# Altium integrated library PCB_Project.IntLib: 51 symbols
Pins are listed as number, name and electrical type; pins without a type are passive.

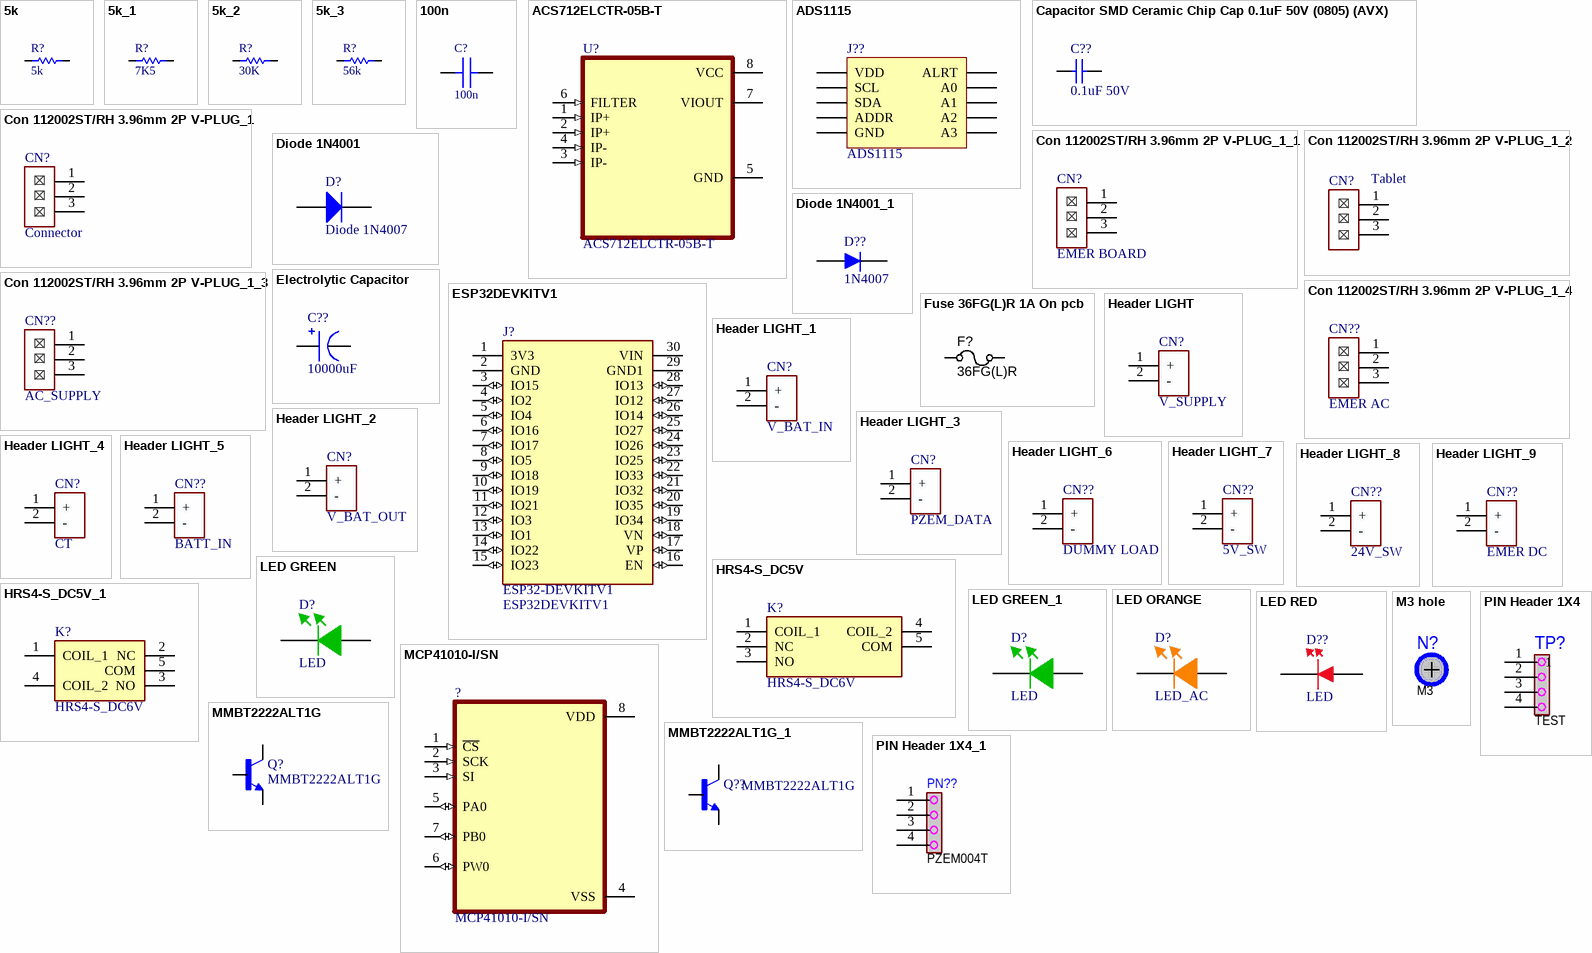
[diagram p0: symbols 5k to PIN Header 1X4_1]

## 5k
designator R?
footprint 0805 MODIFICADO (Chip Resistor, Empaque 0805)
pins: 1, 2

## 5k_1
designator R?, comment 7K5
footprint 0805 MODIFICADO (Chip Resistor, Empaque 0805)
pins: 1, 2

## 5k_2
designator R?, comment 30K
footprint 0805 MODIFICADO (Chip Resistor, Empaque 0805)
pins: 1, 2

## 5k_3
designator R?, comment 56k
footprint RESC2012X60N
pins: 1, 2

## 100n
designator C?
footprint CAPC2012X135N (Chip Capacitor, Body 2.0x1.2mm, EIA 0805, IPC Medium Density)
pins: 1, 2

## ACS712ELCTR-05B-T
designator U?
Current Sensor 5A 1 Channel Hall Effect, Open Loop Bidirectional 8-SOIC (0.154, 3.90mm Width); MF: Allegro MicroSystems LLC; SnapEDA_Link: https://www.snapeda.com/parts/ACS712ELCTR-05B-T/Allegro+MicroSystems+LLC/view-part/?ref=snap; Package: SOIC-8 Allegro MicroSystems LLC; MP: ACS712ELCTR-05B-T; Check_prices: https://www.snapeda.com/parts/ACS712ELCTR-05B-T/Allegro+MicroSystems+LLC/view-part/?ref=eda; Purchase-URL: https://pricing.snapeda.com/search/part/ACS712ELCTR-05B-T/?ref=eda; Price: None; Value: *; Availability: In Stock
footprint SOIC127P600X175-8N
pins: 1 IP+ (in), 2 IP+ (in), 3 IP- (in), 4 IP- (in), 5 GND (power), 6 FILTER (in), 7 VIOUT, 8 VCC (power)

## ADS1115
designator J??
ADC Sensor; LatestRevisionDate: 17-Jul-2002; LatestRevisionNote: Re-released for DXP Platform.; Publisher: Altium Limited
signal-integrity model Connector
footprint BNO080 (Header 1x10)
pins: 1 VDD, 2 GND, 3 SCL, 4 SDA, 5 ADDR, 6 ALRT, 7 A0, 8 A1, 9 A2, 10 A3

## Capacitor SMD Ceramic Chip Cap 0.1uF 50V (0805) (AVX)
designator C??, comment 0.1uF 50V
Capacitor SMD Ceramic Chip Cap 0.1uF 50V (0805) (AVX); RMPN: RMELCCAPSC001; Value: 0.1uF, 50V Ceramic; Created by: Zion Blue; Published: 28 April 2014; Publisher: Cynetik Group; RM DESC: Capacitor SMD Ceramic Chip Cap 0.1uF 50V (0805) (AVX); MPN: *; Manufacturer: *
footprint CAPC2012X135N (Chip Capacitor, Body 2.0x1.2mm, EIA 0805, IPC Medium Density)
pins: 1, 2

## Con 112002ST/RH 3.96mm 2P V-PLUG_1
designator CN?, comment Connector
Connector 3.9mm. 3PINS WAFER STRAIGHT PIN (MALE); RMPN: RMELCCNT006; MPN: 112002ST/RH; Manufacturer: GTK; RM DESC: Connector 3.9mm. 2PINS WAFER STRAIGHT PIN (MALE); ESPN: 0007-0932-2; M DESC: WAFER Connector 2 Pins,Pitch 3.96mm, Straight Type; ComponentLink1Description: ES LINK; ComponentLink1URL: https://www.es.co.th/detail.asp?Prod=000709322
footprint CON 3P 3.8mm
pins: 1 (power), 2 (power), 3 (power)

## Con 112002ST/RH 3.96mm 2P V-PLUG_1_1
designator CN?, comment EMER BOARD
Connector 3.9mm. 3PINS WAFER STRAIGHT PIN (MALE); RMPN: RMELCCNT006; MPN: 112002ST/RH; Manufacturer: GTK; RM DESC: Connector 3.9mm. 2PINS WAFER STRAIGHT PIN (MALE); ESPN: 0007-0932-2; M DESC: WAFER Connector 2 Pins,Pitch 3.96mm, Straight Type; ComponentLink1Description: ES LINK; ComponentLink1URL: https://www.es.co.th/detail.asp?Prod=000709322
footprint CON 3P 3.8mm
pins: 1 (power), 2 (power), 3 (power)

## Con 112002ST/RH 3.96mm 2P V-PLUG_1_2
designator CN?, comment Tablet
Connector 3.9mm. 3PINS WAFER STRAIGHT PIN (MALE); RMPN: RMELCCNT006; MPN: 112002ST/RH; Manufacturer: GTK; RM DESC: Connector 3.9mm. 2PINS WAFER STRAIGHT PIN (MALE); ESPN: 0007-0932-2; M DESC: WAFER Connector 2 Pins,Pitch 3.96mm, Straight Type; ComponentLink1Description: ES LINK; ComponentLink1URL: https://www.es.co.th/detail.asp?Prod=000709322
footprint CON 3P 3.8mm
pins: 1 (power), 2 (power), 3 (power)

## Con 112002ST/RH 3.96mm 2P V-PLUG_1_3
designator CN??, comment AC_SUPPLY
Connector 3.9mm. 3PINS WAFER STRAIGHT PIN (MALE); RMPN: RMELCCNT006; MPN: 112002ST/RH; Manufacturer: GTK; RM DESC: Connector 3.9mm. 2PINS WAFER STRAIGHT PIN (MALE); ESPN: 0007-0932-2; M DESC: WAFER Connector 2 Pins,Pitch 3.96mm, Straight Type; ComponentLink1Description: ES LINK; ComponentLink1URL: https://www.es.co.th/detail.asp?Prod=000709322
footprint CON 3P 3.8mm
pins: 1, 2, 3

## Con 112002ST/RH 3.96mm 2P V-PLUG_1_4
designator CN??, comment EMER AC
Connector 3.9mm. 3PINS WAFER STRAIGHT PIN (MALE); RMPN: RMELCCNT006; MPN: 112002ST/RH; Manufacturer: GTK; RM DESC: Connector 3.9mm. 2PINS WAFER STRAIGHT PIN (MALE); ESPN: 0007-0932-2; M DESC: WAFER Connector 2 Pins,Pitch 3.96mm, Straight Type; ComponentLink1Description: ES LINK; ComponentLink1URL: https://www.es.co.th/detail.asp?Prod=000709322
footprint CON 3P 3.8mm
pins: 1, 2, 3

## Diode 1N4001
designator D?, comment Diode 1N4007
1 Amp General Purpose Rectifier; Published: 8-Jun-2000; LatestRevisionDate: 17-Jul-2002; LatestRevisionNote: Re-released for DXP Platform.; DatasheetVersion: 1998; PackageVersion: Aug-1999; PackageReference: DO-41; Publisher: Altium Limited; PackageDescription: Diode, Axial; Body 5.2 x 2.7 mm (LxDia. max), Lead Dia. 0.86 mm (max); Code_JEDEC: DO-204-AL; ComponentLink1Description: Manufacturer Link; ComponentLink1URL: http://www.fairchildsemi.com/; ComponentLink2Description: Datasheet; ComponentLink2URL: http://www.fairchildsemi.com/ds/1N%2F1N4001.pdf
footprint DO-41 (Diode, Axial; Body 5.2 x 2.7 mm (LxDia. max), Lead Dia. 0.86 mm (max))
simulation model 1N4001 (DIODE)
signal-integrity model 1N4001
pins: 1 A, 2 K

## Diode 1N4001_1
designator D??, comment 1N4007
1 Amp General Purpose Rectifier; Published: 8-Jun-2000; LatestRevisionDate: 17-Jul-2002; LatestRevisionNote: Re-released for DXP Platform.; DatasheetVersion: 1998; PackageVersion: Aug-1999; PackageReference: DO-41; Publisher: Altium Limited; PackageDescription: Diode, Axial; Body 5.2 x 2.7 mm (LxDia. max), Lead Dia. 0.86 mm (max); Code_JEDEC: DO-204-AL; ComponentLink1Description: Manufacturer Link; ComponentLink1URL: http://www.fairchildsemi.com/; ComponentLink2Description: Datasheet; ComponentLink2URL: http://www.fairchildsemi.com/ds/1N%2F1N4001.pdf
footprint DO-41 (Diode, Axial; Body 5.2 x 2.7 mm (LxDia. max), Lead Dia. 0.86 mm (max))
simulation model 1N4001 (DIODE)
signal-integrity model 1N4001
pins: 1 A, 2 K

## Electrolytic Capacitor
designator C??, comment 10000uF
10,000 uF / 1000 Vdc
pins: 0, 1

## ESP32DEVKITV1
designator J?
Dual core, Wi-Fi: 2.4 GHz up to 150 Mbits/s,BLE (Bluetooth Low Energy) and legacy Bluetooth, 32 bits, Up to 240 MHz; MF: Do it; Check_prices: https://www.snapeda.com/parts/ESP32%20DEVKIT%20V1/Do%20it/view-part/5659245/?ref=eda; Value: *; SnapEDA_Link: https://www.snapeda.com/parts/ESP32%20DEVKIT%20V1/Do%20it/view-part/5659245/?ref=snap; Package: Package; Availability: Unavailable; Price: None; MP: ESP32 DEVKIT V1
footprint ESP32-DEVKITV1_3D
pins: 1 3V3 (power), 2 GND (power), 3 IO15 (io), 4 IO2 (io), 5 IO4 (io), 6 IO16 (io), 7 IO17 (io), 8 IO5 (io), 9 IO18 (io), 10 IO19 (io), 11 IO21 (io), 12 IO3 (io), 13 IO1 (io), 14 IO22 (io), 15 IO23 (io), 16 EN (io), 17 VP (io), 18 VN (io), 19 IO34 (io), 20 IO35 (io), 21 IO32 (io), 22 IO33 (io), 23 IO25 (io), 24 IO26 (io), 25 IO27 (io), 26 IO14 (io), 27 IO12 (io), 28 IO13 (io), 29 GND1 (power), 30 VIN (power)
text: ESP32-DEVKITV1

## Fuse 36FG(L)R 1A On pcb
designator F?, comment 36FG(L)R
Fuse Microfuse, 1A/250Vac, Fast Acting (Normal Blow) P/N : 36FG(L)R (SLEEK); RMPN: RMELCFUSA001; Revised: Zion Blue; RM DESC: Fuse หางหนู Microfuse, 1A/250Vac, Fast Acting (Normal Blow) P/N : 36FG(L)R (SLEEK); ESPN: 0562-0001-0; Value: 1A, 250Vac; Published: 14-May-2014; Publisher: Cynetik Group; MPN: 36FG(L)R; Manufacturer: SLEEK; ComponentLink1Description: Link ES; ComponentLink1URL: https://www.es.co.th/detail.asp?prod=056200010; ComponentLink2Description: Datasheet; ComponentLink2URL: https://www.es.co.th/Schemetic/PDF/36FG-SLEEK.PDF
footprint Micro Fuse - L14mm
pins: 1, 2

## Header LIGHT
designator CN?, comment V_SUPPLY
Connector 3.96MM 02 PIN WAFER STRAIGHTPIN (MALE)
footprint Header 2 pin molex
pins: 1 + (power), 2 - (power)

## Header LIGHT_1
designator CN?, comment V_BAT_IN
Connector 3.96MM 02 PIN WAFER STRAIGHTPIN (MALE)
footprint Header 2 pin molex
pins: 1 +, 2 -

## Header LIGHT_2
designator CN?, comment V_BAT_OUT
Connector 3.96MM 02 PIN WAFER STRAIGHTPIN (MALE)
footprint Header 2 pin molex
pins: 1 + (power), 2 -

## Header LIGHT_3
designator CN?, comment PZEM_DATA
Connector 3.96MM 02 PIN WAFER STRAIGHTPIN (MALE)
footprint Header 2 pin molex
pins: 1 +, 2 -

## Header LIGHT_4
designator CN?, comment CT
Connector 3.96MM 02 PIN WAFER STRAIGHTPIN (MALE)
footprint Header 2 pin molex
pins: 1 +, 2 -

## Header LIGHT_5
designator CN??, comment BATT_IN
Connector 3.96MM 02 PIN WAFER STRAIGHTPIN (MALE)
footprint Header 2 pin molex
pins: 1 +, 2 -

## Header LIGHT_6
designator CN??, comment DUMMY LOAD
Connector 3.96MM 02 PIN DUMMY LOAD 10 OHM
footprint Header 2 pin molex
pins: 1 +, 2 -

## Header LIGHT_7
designator CN??, comment 5V_SW
Connector 3.96MM 02 PIN WAFER STRAIGHTPIN (MALE)
footprint Header 2 pin molex
pins: 1 +, 2 -

## Header LIGHT_8
designator CN??, comment 24V_SW
Connector 3.96MM 02 PIN WAFER STRAIGHTPIN (MALE)
footprint Header 2 pin molex
pins: 1 +, 2 -

## Header LIGHT_9
designator CN??, comment EMER DC
Connector 3.96MM 02 PIN WAFER STRAIGHTPIN (MALE)
footprint Header 2 pin molex
pins: 1 +, 2 -

## HRS4-S_DC5V
designator K?, comment HRS4-S_DC6V
Relay or Contactor; Manufacturer_Name: MULTICOMP; Manufacturer_Part_Number: HRS4-S DC5V; Datasheet Link: http://www.farnell.com/datasheets/1306711.pdf; Height: 16mm
footprint HRS4SDC5V
pins: 1 COIL_1, 2 NC, 3 NO, 4 COIL_2, 5 COM

## HRS4-S_DC5V_1
designator K?, comment HRS4-S_DC6V
Relay or Contactor; Manufacturer_Name: MULTICOMP; Manufacturer_Part_Number: HRS4-S DC5V; Datasheet Link: http://www.farnell.com/datasheets/1306711.pdf; Height: 16mm
footprint HRS4SDC5V
pins: 1 COIL_1, 2 NC, 3 NO, 4 COIL_2, 5 COM

## LED GREEN
designator D?, comment LED
LED Lamp Round 5 mm, 50 mcd,Green Color Green Diffused Lens
footprint LED GREEN
pins: 1 K, 2 A

## LED GREEN_1
designator D?, comment LED
LED Lamp Round 5 mm, 50 mcd,Green Color Green Diffused Lens
footprint LED GREEN
pins: 1 K, 2 A

## LED ORANGE
designator D?, comment LED_AC
LED ORANGE for AC-signal display
footprint LED ORANGE - duplicate
footprint 1206 Red LED SMD (Led SMD Blanco)
footprint LED GREEN - duplicate
footprint LED ORANGE
pins: 1 K, 2 A

## LED RED
designator D??, comment LED
LED Lamp 5mm Round,4.5 mcd,Red Color Red Diffused Lens
footprint LED RED
footprint 3.2X1.6X1.1 (SMT LED; 2 Flat Leads)
pins: 1 A, 2 K

## M3 hole
designator N?, comment M3
น็อต JT หัวร่ม สกรูมิลสี่แฉก M3x6; RMPN: RMRMANUTCJTZ011
footprint M3 hole

## MCP41010-I/SN
designator ?
Digital Potentiometer 10k Ohm 1 Circuit 256 Taps SPI Interface 8-SOIC; MF: Microchip; Availability: Unavailable; MP: MCP41010-I/SN; Package: SOIC-8 Microchip; SnapEDA_Link: https://www.snapeda.com/parts/MCP41010-I/SN/Microchip/view-part/43921/?ref=snap; Value: *; Price: None
footprint SOIC127P599X175-8N
pins: 1 ~{CS} (in), 2 SCK (in), 3 SI (in), 4 VSS (power), 5 PA0 (io), 6 PW0 (io), 7 PB0 (io), 8 VDD (power)

## MMBT2222ALT1G
designator Q?
Bipolar (BJT) Transistor NPN 40 V 600 mA 300MHz 225 mW Surface Mount SOT-23-3 (TO-236); MF: ON Semiconductor; SnapEDA_Link: https://www.snapeda.com/parts/MMBT2222ALT1G/Onsemi/view-part/?ref=snap; Purchase-URL: https://pricing.snapeda.com/search/part/MMBT2222ALT1G/?ref=eda; MP: MMBT2222ALT1G; Check_prices: https://www.snapeda.com/parts/MMBT2222ALT1G/Onsemi/view-part/?ref=eda; Availability: In Stock; Package: SOT-23-3 ON Semiconductor; Price: None; Value: *
footprint SOT95P237X111-3N
pins: 1 B, 2 E, 3 C

## MMBT2222ALT1G_1
designator Q??, comment MMBT2222ALT1G
Bipolar (BJT) Transistor NPN 40 V 600 mA 300MHz 225 mW Surface Mount SOT-23-3 (TO-236); MF: ON Semiconductor; SnapEDA_Link: https://www.snapeda.com/parts/MMBT2222ALT1G/Onsemi/view-part/?ref=snap; Purchase-URL: https://pricing.snapeda.com/search/part/MMBT2222ALT1G/?ref=eda; MP: MMBT2222ALT1G; Check_prices: https://www.snapeda.com/parts/MMBT2222ALT1G/Onsemi/view-part/?ref=eda; Availability: In Stock; Package: SOT-23-3 ON Semiconductor; Price: None; Value: *
footprint SOT95P237X111-3N
pins: 1 B, 2 E, 3 C

## PIN Header 1X4
designator TP?, comment TEST
Connector Pin Header 4 Pins,Pitch 2.54mm. P/N : PHSS04G10/RH (GTK); ComponentLink1Description: Link ES; ComponentLink1URL: https://www.es.co.th/detail.asp?Prod=000703471; ComponentLink2Description: Datasheet; ComponentLink2URL: https://www.es.co.th/Schemetic/PDF/PHSSXXG10.PDF
footprint 1x4POS_HEAD_MALE_GOLD (Connector Header, Single-row 4-position, 0.100" pitch)
footprint 1x4P Test PIN (Connector Header, Single-row 4-position, 0.100" pitch)
pins: 1 (power), 2, 3, 4 (power)

## PIN Header 1X4_1
designator PN??, comment PZEM004T
Connector Pin Header 4 Pins,Pitch 2.54mm. P/N : PHSS04G10/RH (GTK); ComponentLink1Description: Link ES; ComponentLink1URL: https://www.es.co.th/detail.asp?Prod=000703471; ComponentLink2Description: Datasheet; ComponentLink2URL: https://www.es.co.th/Schemetic/PDF/PHSSXXG10.PDF
footprint 1x4POS_HEAD_MALE_GOLD (Connector Header, Single-row 4-position, 0.100" pitch)
footprint 1x4P Test PIN (Connector Header, Single-row 4-position, 0.100" pitch)
pins: 1, 2, 3, 4

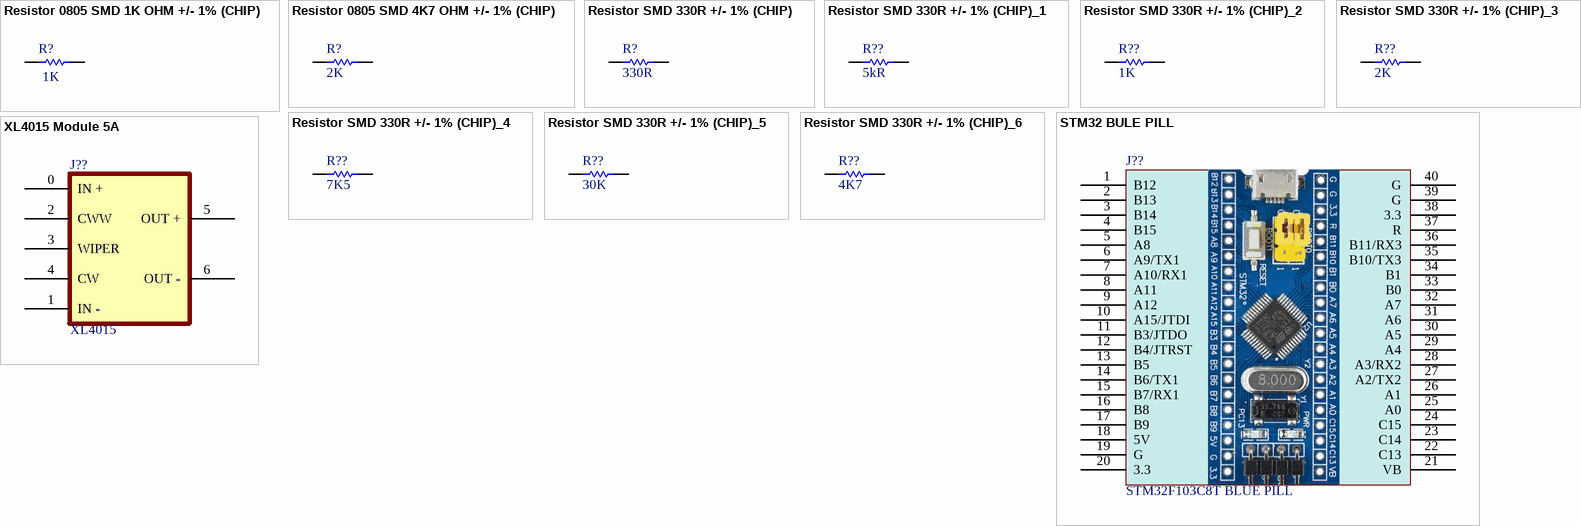
[diagram p1: symbols Resistor 0805 SMD 1K OHM +/- 1% (CHIP) to XL4015 Module 5A]

## Resistor 0805 SMD 1K OHM +/- 1% (CHIP)
designator R?, comment 1K
'RES SMD 1K OHM 1% 1/8W 0805/0805W8F1001T5E
footprint 0805 Modificado (Chip Resistor, Empaque 0805)
pins: 1, 2

## Resistor 0805 SMD 4K7 OHM +/- 1% (CHIP)
designator R?, comment 2K
'RES SMD 4.7K OHM 1% 1/8W 0805/0805W8F4701T5E
footprint 0805 Modificado (Chip Resistor, Empaque 0805)
pins: 1, 2

## Resistor SMD 330R +/- 1% (CHIP)
designator R?, comment 330R
'RES SMD 330 OHM 5% 1/8W 0805/0805W8F3300T5E; RMPN: RMELCRSTS010
footprint 0805 Modificado (Chip Resistor, Empaque 0805)
pins: 1, 2

## Resistor SMD 330R +/- 1% (CHIP)_1
designator R??, comment 5kR
'RES SMD 330 OHM 5% 1/8W 0805/0805W8F3300T5E; RMPN: RMELCRSTS010
footprint 0805 Modificado (Chip Resistor, Empaque 0805)
pins: 1, 2

## Resistor SMD 330R +/- 1% (CHIP)_2
designator R??, comment 1K
'RES SMD 330 OHM 5% 1/8W 0805/0805W8F3300T5E; RMPN: RMELCRSTS010
footprint 0805 Modificado (Chip Resistor, Empaque 0805)
pins: 1, 2

## Resistor SMD 330R +/- 1% (CHIP)_3
designator R??, comment 2K
'RES SMD 330 OHM 5% 1/8W 0805/0805W8F3300T5E; RMPN: RMELCRSTS010
footprint 0805 Modificado (Chip Resistor, Empaque 0805)
pins: 1, 2

## Resistor SMD 330R +/- 1% (CHIP)_4
designator R??, comment 7K5
'RES SMD 330 OHM 5% 1/8W 0805/0805W8F3300T5E; RMPN: RMELCRSTS010
footprint 0805 Modificado (Chip Resistor, Empaque 0805)
pins: 1, 2

## Resistor SMD 330R +/- 1% (CHIP)_5
designator R??, comment 30K
'RES SMD 330 OHM 5% 1/8W 0805/0805W8F3300T5E; RMPN: RMELCRSTS010
footprint 0805 Modificado (Chip Resistor, Empaque 0805)
pins: 1, 2

## Resistor SMD 330R +/- 1% (CHIP)_6
designator R??, comment 4K7
'RES SMD 330 OHM 5% 1/8W 0805/0805W8F3300T5E; RMPN: RMELCRSTS010
footprint 0805 Modificado (Chip Resistor, Empaque 0805)
pins: 1, 2

## STM32 BULE PILL
designator J??, comment STM32F103C8T BLUE PILL
STM32F103C8T BULE PILL
footprint STM32 BLUE PILL
pins: 1 B12, 2 B13, 3 B14, 4 B15, 5 A8, 6 A9/TX1, 7 A10/RX1, 8 A11, 9 A12, 10 A15/JTDI, 11 B3/JTDO, 12 B4/JTRST, 13 B5, 14 B6/TX1, 15 B7/RX1, 16 B8, 17 B9, 18 5V, 19 G, 20 3.3, 21 VB, 22 C13, 23 C14, 24 C15, 25 A0, 26 A1, 27 A2/TX2, 28 A3/RX2, 29 A4, 30 A5, 31 A6, 32 A7, 33 B0, 34 B1, 35 B10/TX3, 36 B11/RX3, 37 R, 38 3.3, 39 G, 40 G

## XL4015 Module 5A
designator J??, comment XL4015
XL4015 Module step down converter
pins: 0 IN +, 1 IN -, 2 CWW, 3 WIPER, 4 CW, 5 OUT +, 6 OUT -